# EAGLE library part AP7331-SNG-7 (library LDO)
IC REG LIN POS ADJ 300MA 6DFN Manufacturer's datasheet <https://www.diodes.com/assets/Datasheets/AP7331.pdf>
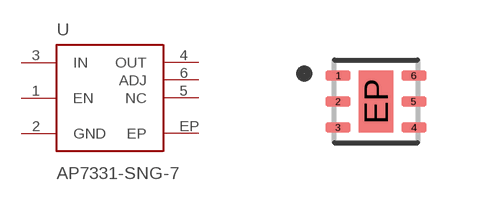
[diagram p4: symbol with the pads of 6-DFN-EP; footprint 6-DFN-EP]

Designator prefix U

## AP7331-SNG-7 (CREATED_BY: PCBLayout.com; DIGIKEY_PARTNO: AP7331-SNG-7DICT-ND; MANUFACTURER: Diodes Incorporated; MPN: AP7331-SNG-7; PACKAGE: 6-DFN-EP)  [6-DFN-EP]
1  EN  in
2  GND  pwr
3  IN  in
4  OUT  out
5  NC  pas
6  ADJ  out
EP  EP  pwr

## Footprint 6-DFN-EP (pad centres in mm)
Small Outline No-Lead (SON with Tab), 0.65 mm pitch; 6 pin, 2.013 mm L X 2.013 mm W X 0.63 mm H body PCB Libraries Packages
smd 0.63 x 0.27: 1 -0.945,0.65; 2 -0.945,0; 3 -0.945,-0.65; 4 0.945,-0.65; 5 0.945,0; 6 0.945,0.65
smd 0.86 x 1.55: EP 0,0